# EAGLE library part DRV8876 (library ICs)
Unipolar Motor Driver NMOS PWM 16-HTSSOP
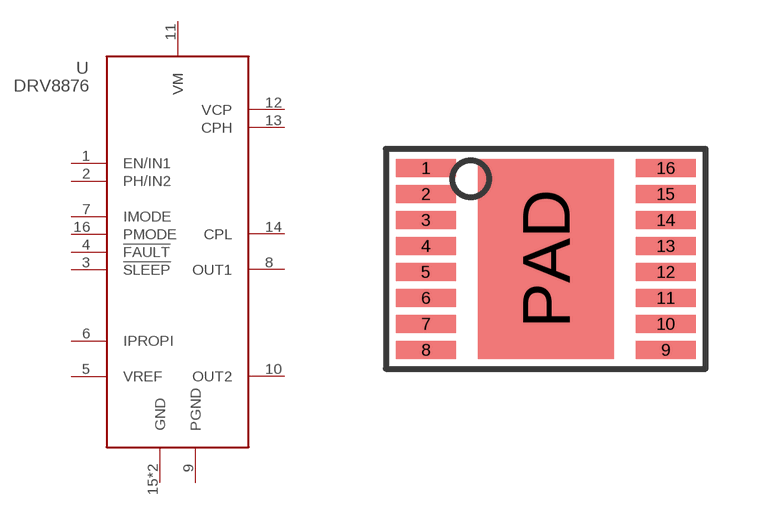
[diagram p260: symbol with the pads of HTSSOP16; footprint HTSSOP16]

Designator prefix U

## DRV8876PWP (DIGIKEY: 296-DRV8876NPWPRCT-ND; HEIGHT: 1; PRICE_PER: 1.66; VALUE: DRV8876)  [HTSSOP16]
1  EN/IN1
2  PH/IN2
3  !SLEEP
4  !FAULT
5  VREF
6  IPROPI
7  IMODE
8  OUT1
9  PGND
10  OUT2
11  VM
12  VCP
13  CPH
14  CPL
15  GND
16  PMODE
PAD  GND

## Footprint HTSSOP16 (pad centres in mm)
smd 1.5 x 0.45: 1 -3,2.275; 2 -3,1.625; 3 -3,0.975; 4 -3,0.325; 5 -3,-0.325; 6 -3,-0.975; 7 -3,-1.625; 8 -3,-2.275; 9 3,-2.275; 10 3,-1.625; 11 3,-0.975; 12 3,-0.325; 13 3,0.325; 14 3,0.975; 15 3,1.625; 16 3,2.275
smd 3.4 x 5: PAD 0,0